# EAGLE library part 2450BM14E0003_BALUN (library baseOauth)
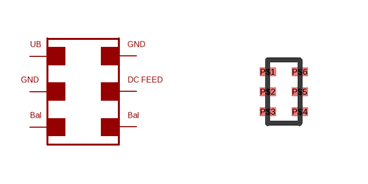
[diagram p4: symbol with the pads of 6PCPADS; footprint 6PCPADS]

Designator prefix -

## 2450BM14E0003_BALUN  [6PCPADS]
P$1  1
P$2  2
P$3  3
P$4  4
P$5  5
P$6  6

## Footprint 6PCPADS (pad centres in mm)
smd 0.4 x 0.2: P$1 -0.4,0.5; P$2 -0.4,0; P$3 -0.4,-0.5; P$4 0.4,-0.5; P$5 0.4,0; P$6 0.4,0.5